# Altium footprint library Inductance.PcbLib: 23 footprints (part 1 of 2)
Each footprint in its own frame and in the unit in brackets; x right, y up, seen from the top. Pads: shape width x height; smd on the part's side, far side on the other; paste and mask are expansions set on the pad; w line width, h text height; cw(c..) or ccw(c..) is an arc to the next point about the centre after c.
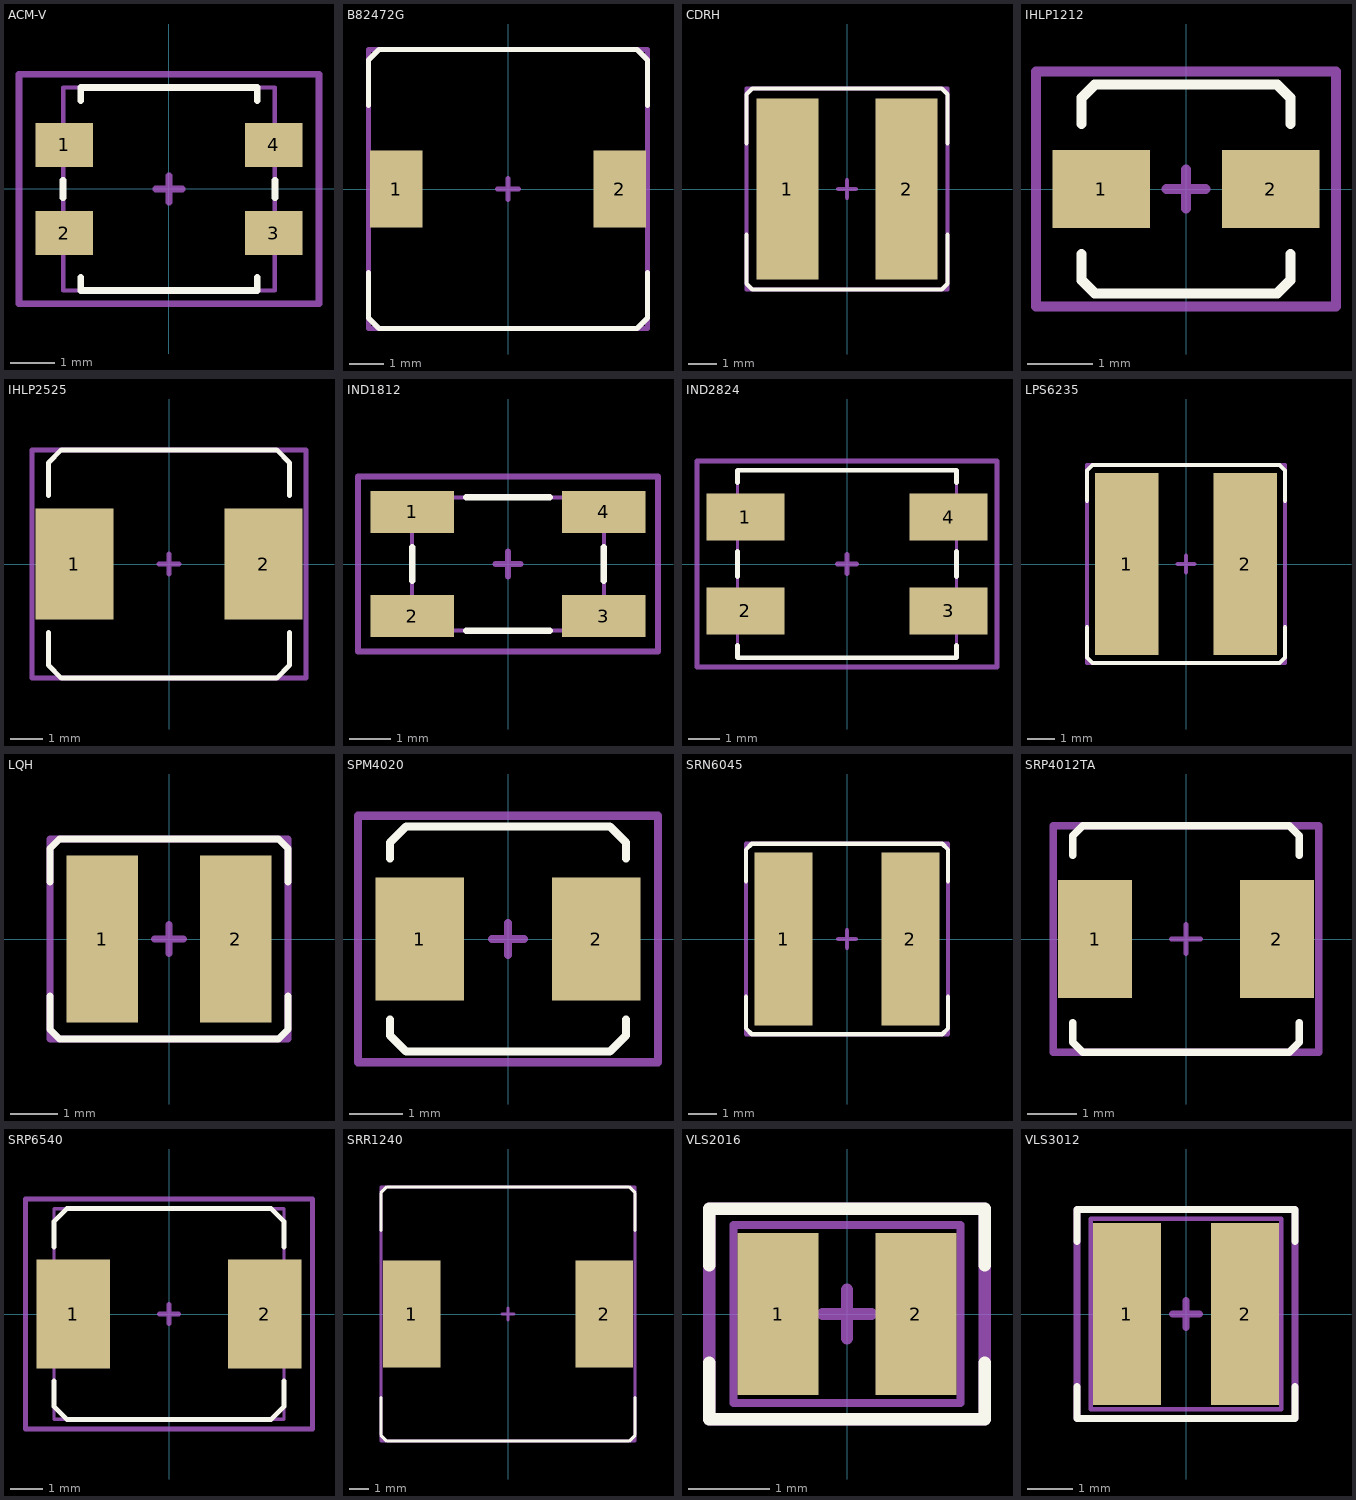
[diagram p0: the footprints below, top view; thin cyan lines are the x and y axes]

## ACM-V [mm]
pads (4):
  rect 1.3x1 smd: 1(-2.375,1) 2(-2.375,-1) 3(2.375,-1) 4(2.375,1)
Top Overlay:
  lines w0.153: -2.4,-0.2 -2.4,0.2 ; -2,-2 -2,-2.3 2,-2.3 2,-2 ; -2,2 -2,2.3 2,2.3 2,2 ; 2.4,-0.2 2.4,0.2
Top Assembly:
  lines w0.1: -2.4,-2.3 -2.4,2.3 2.4,2.3 2.4,-2.3 -2.4,-2.3
  text "'.Designator'" at -4.685,-0.755 h0.8
Top Courtyard:
  lines w0.153: -0.3,0 0.3,0 ; 0,-0.3 0,0.3 ; -3.4,-2.6 -3.4,2.6 3.4,2.6 3.4,-2.6 -3.4,-2.6
3D body "acm4520v (1).step": height 1.89, standoff 0, extent -2.35,-2.25 2.35,2.25

## B82472G [mm]
pads (2):
  rect 1.5x2.2 smd: 1(-3.2,0) 2(3.2,0)
Top Overlay:
  lines w0.153: -4,-2.4 -4,-3.7 -3.7,-4 3.7,-4 4,-3.7 4,-2.4 ; -4,2.4 -4,3.7 -3.7,4 3.7,4 4,3.7 4,2.4
Top Assembly:
  lines w0.1: -4,-4 -4,4 4,4 4,-4 -4,-4
  text "'.Designator'" at -4.685,-0.755 h0.8
Top Courtyard:
  lines w0.153: -0.3,0 0.3,0 ; 0,-0.3 0,0.3 ; -4,-4 -4,4 4,4 4,-4 -4,-4
3D body "b82472_g6.STEP": height 4.05, standoff 0, extent -3.65,-3.65 3.65,3.65

## CDRH [mm]
pads (2):
  rect 2.15x6.3 smd: 1(-2.075,0) 2(2.075,0)
Top Overlay:
  lines w0.153: -3.5,-1.6 -3.5,-3.3 -3.3,-3.5 3.3,-3.5 3.5,-3.3 3.5,-1.6 ; -3.5,1.6 -3.5,3.3 -3.3,3.5 3.3,3.5 3.5,3.3 3.5,1.6
Top Assembly:
  lines w0.1: -3.5,-3.5 -3.5,3.5 3.5,3.5 3.5,-3.5 -3.5,-3.5
  text "'.Designator'" at -4.685,-0.755 h0.8
Top Courtyard:
  lines w0.153: -0.3,0 0.3,0 ; 0,-0.3 0,0.3 ; -3.5,-3.5 -3.5,3.5 3.5,3.5 3.5,-3.5 -3.5,-3.5
3D body "User Library-CDRH5D28-1.STEP": height 2, standoff 0, extent -3,-3 3.005,3

## IHLP1212 [mm]
pads (2):
  rect 1.5x1.2 smd: 1(-1.3,0) 2(1.3,0)
Top Overlay:
  lines w0.153: -1.6,-1 -1.6,-1.4 -1.4,-1.6 1.4,-1.6 1.6,-1.4 1.6,-1 ; -1.6,1 -1.6,1.4 -1.4,1.6 1.4,1.6 1.6,1.4 1.6,1
Top Assembly:
  lines w0.1: -2.3,-1.8 -2.3,1.8 2.3,1.8 2.3,-1.8 -2.3,-1.8
  text "'.Designator'" at -4.532,-0.333 h0.8
Top Courtyard:
  lines w0.153: -0.3,0 0.3,0 ; 0,-0.3 0,0.3 ; -2.3,-1.8 2.3,-1.8 2.3,1.8 -2.3,1.8 -2.3,-1.8
3D body "IND_A220M11_VIS.step": height 2.01, standoff 0, extent -1.6,-1.6 1.6,1.6

## IHLP2525 [mm]
pads (2):
  rect 2.4x3.4 smd: 1(-2.9,0) 2(2.9,0)
Top Overlay:
  lines w0.153: -3.7,-2.1 -3.7,-3.1 -3.3,-3.5 3.3,-3.5 3.7,-3.1 3.7,-2.1 ; -3.7,2.1 -3.7,3.1 -3.3,3.5 3.3,3.5 3.7,3.1 3.7,2.1
Top Assembly:
  lines w0.1: -4.2,-3.5 4.2,-3.5 4.2,3.5 -4.2,3.5 -4.2,-3.5
  text "'.Designator'" at -4.685,-0.755 h0.8
Top Courtyard:
  lines w0.153: -0.3,0 0.3,0 ; 0,-0.3 0,0.3 ; -4.2,-3.5 -4.2,3.5 4.2,3.5 4.2,-3.5 -4.2,-3.5
3D body "IHLP2525CZ.step": height 2.89, standoff 0, extent -3.532,-3.331 3.545,3.339

## IND1812 [mm]
pads (4):
  rect 2x1 smd: 1(-2.3,1.25) 2(-2.3,-1.25) 3(2.3,-1.25) 4(2.3,1.25)
Top Overlay:
  lines w0.153: -2.3,-0.4 -2.3,0.4 ; -1,-1.6 1,-1.6 ; -1,1.6 1,1.6 ; 2.3,-0.4 2.3,0.4
Top Assembly:
  lines w0.1: -2.3,-1.6 -2.3,1.6 2.3,1.6 2.3,-1.6 -2.3,-1.6
  text "'.Designator'" at -4.685,-0.755 h0.8
Top Courtyard:
  lines w0.153: -0.3,0 0.3,0 ; 0,-0.3 0,0.3 ; -3.6,-2.1 3.6,-2.1 3.6,2.1 -3.6,2.1 -3.6,-2.1
3D body "act45b.step": height 2.8, standoff 0, extent -2.25,-1.6 2.25,1.6

## IND2824 [mm]
pads (4):
  rect 2.5x1.5 smd: 1(-3.25,1.5) 2(-3.25,-1.5) 3(3.25,-1.5) 4(3.25,1.5)
Top Overlay:
  lines w0.153: -3.5,-2.6 -3.5,-3 3.5,-3 3.5,-2.6 ; -3.5,-0.4 -3.5,0.4 ; -3.5,2.6 -3.5,3 3.5,3 3.5,2.6 ; 3.5,-0.4 3.5,0.4
Top Assembly:
  lines w0.1: -3.5,-3 3.5,-3 3.5,3 -3.5,3 -3.5,-3
  text "'.Designator'" at -4.685,-0.755 h0.8
Top Courtyard:
  lines w0.153: -0.3,0 0.3,0 ; 0,-0.3 0,0.3 ; -4.8,-3.3 4.8,-3.3 4.8,3.3 -4.8,3.3 -4.8,-3.3
3D body "acm7060.step": height 3.35, standoff 0.01, extent -3.499,-2.999 3.501,3.001

## LPS6235 [mm]
pads (2):
  rect 2.3x6.6 smd: 1(-2.15,0) 2(2.15,0)
Top Overlay:
  lines w0.153: -3.6,-2.3 -3.6,-3.4 -3.4,-3.6 3.4,-3.6 3.6,-3.4 3.6,-2.3 ; -3.6,2.3 -3.6,3.4 -3.4,3.6 3.4,3.6 3.6,3.4 3.6,2.3
Top Assembly:
  lines w0.1: -3.6,-3.6 -3.6,3.6 3.6,3.6 3.6,-3.6 -3.6,-3.6
  text "'.Designator'" at -4.685,-0.755 h0.8
Top Courtyard:
  lines w0.153: -0.3,0 0.3,0 ; 0,-0.3 0,0.3 ; -3.6,-3.6 3.6,-3.6 3.6,3.6 -3.6,3.6 -3.6,-3.6
3D body "Coilcraft-LPS6235.step": height 3.5, standoff 0, extent -3.038,-3.038 3.038,3.038

## LQH [mm]
pads (2):
  rect 1.5x3.5 smd: 1(-1.4,0) 2(1.4,0)
Top Overlay:
  lines w0.153: -2.5,-1.2 -2.5,-1.9 -2.3,-2.1 2.3,-2.1 2.5,-1.9 2.5,-1.2 ; -2.5,1.2 -2.5,1.9 -2.3,2.1 2.3,2.1 2.5,1.9 2.5,1.2
Top Assembly:
  lines w0.1: -2.5,-2.1 2.5,-2.1 2.5,2.1 -2.5,2.1 -2.5,-2.1
  text "'.Designator'" at -4.685,-0.755 h0.8
Top Courtyard:
  lines w0.153: -0.3,0 0.3,0 ; 0,-0.3 0,0.3 ; -2.5,-2.1 -2.5,2.1 2.5,2.1 2.5,-2.1 -2.5,-2.1
3D body "LQH32PN_sw.STEP": height 1.55, standoff 0, extent -1.6,-1.25 1.6,1.25

## SPM4020 [mm]
pads (2):
  rect 1.65x2.3 smd: 1(-1.65,0) 2(1.65,0)
Top Overlay:
  lines w0.153: -2.2,-1.5 -2.2,-1.8 -1.9,-2.1 1.9,-2.1 2.2,-1.8 2.2,-1.5 ; -2.2,1.5 -2.2,1.8 -1.9,2.1 1.9,2.1 2.2,1.8 2.2,1.5
Top Assembly:
  lines w0.1: -2.8,-2.3 -2.8,2.3 2.8,2.3 2.8,-2.3 -2.8,-2.3
  text "'.Designator'" at -4.532,-0.333 h0.8
Top Courtyard:
  lines w0.153: -0.3,0 0.3,0 ; 0,-0.3 0,0.3 ; -2.8,-2.3 -2.8,2.3 2.8,2.3 2.8,-2.3 -2.8,-2.3
3D body "spm4020-lr.step": height 2, standoff 0, extent -2.196,-2.019 2.202,2.081

## SRN6045 [mm]
pads (2):
  rect 2x6 smd: 1(-2.2,0) 2(2.2,0)
Top Overlay:
  lines w0.153: -3.5,-2 -3.5,-3.1 -3.3,-3.3 3.3,-3.3 3.5,-3.1 3.5,-2 ; -3.5,2 -3.5,3.1 -3.3,3.3 3.3,3.3 3.5,3.1 3.5,2
Top Assembly:
  lines w0.1: -3.5,-3.3 -3.5,3.3 3.5,3.3 3.5,-3.3 -3.5,-3.3
  text "'.Designator'" at -4.532,-0.333 h0.8
Top Courtyard:
  lines w0.153: -0.3,0 0.3,0 ; 0,-0.3 0,0.3 ; -3.5,-3.3 -3.5,3.3 3.5,3.3 3.5,-3.3 -3.5,-3.3
3D body "srn6045-1r0y.STEP": height 4.5, standoff 0, extent -3,-3 3,3

## SRP4012TA [mm]
pads (2):
  rect 1.5x2.4 smd: 1(-1.85,0) 2(1.85,0)
Top Overlay:
  lines w0.153: -2.3,-1.7 -2.3,-2.1 -2.1,-2.3 2.1,-2.3 2.3,-2.1 2.3,-1.7 ; -2.3,1.7 -2.3,2.1 -2.1,2.3 2.1,2.3 2.3,2.1 2.3,1.7
Top Assembly:
  lines w0.1: -2.7,-2.3 -2.7,2.3 2.7,2.3 2.7,-2.3 -2.7,-2.3
  text "'.Designator'" at -4.532,-0.333 h0.8
Top Courtyard:
  lines w0.1: -0.3,0 0.3,0 ; 0,-0.3 0,0.3
  lines w0.153: -2.7,-2.3 -2.7,2.3 2.7,2.3 2.7,-2.3 -2.7,-2.3
3D body "srp4012ta-1r0m.STEP": height 1.73, standoff 0.03, extent -2.197,-2.148 2.197,2.145

## SRP6540 [mm]
pads (2):
  rect 2.3x3.4 smd: 1(-3,0) 2(3,0)
Top Overlay:
  lines w0.153: -3.6,-2.1 -3.6,-2.9 -3.2,-3.3 3.2,-3.3 3.6,-2.9 3.6,-2.1 ; -3.6,2.1 -3.6,2.9 -3.2,3.3 3.2,3.3 3.6,2.9 3.6,2.1
Top Assembly:
  lines w0.1: -3.6,-3.3 3.6,-3.3 3.6,3.3 -3.6,3.3 -3.6,-3.3
  text "'.Designator'" at -4.685,-0.755 h0.8
Top Courtyard:
  lines w0.153: -0.3,0 0.3,0 ; 0,-0.3 0,0.3 ; -4.5,-3.6 -4.5,3.6 4.5,3.6 4.5,-3.6 -4.5,-3.6
3D body "srp6540-220m.stp.STEP": height 3.99, standoff 0, extent -3.594,-3.251 3.594,3.251

## SRR1240 [mm]
pads (2):
  rect 2.9x5.4 smd: 1(-4.85,0) 2(4.85,0)
Top Overlay:
  lines w0.153: -6.4,-4.2 -6.4,-6.1 -6.1,-6.4 6.1,-6.4 6.4,-6.1 6.4,-4.2 ; -6.4,4.2 -6.4,6.1 -6.1,6.4 6.1,6.4 6.4,6.1 6.4,4.2
Top Assembly:
  lines w0.1: -6.4,-6.4 -6.4,6.4 6.4,6.4 6.4,-6.4 -6.4,-6.4
  text "'.Designator'" at -4.532,-0.333 h0.8
Top Courtyard:
  lines w0.153: -0.3,0 0.3,0 ; 0,-0.3 0,0.3 ; -6.4,-6.4 -6.4,6.4 6.4,6.4 6.4,-6.4 -6.4,-6.4
3D body "srr1240-100m.stp.STEP": height 4, standoff 0, extent -6.25,-6.25 6.25,6.25

## VLS2016 [mm]
pads (2):
  rect 1x2 smd: 1(-0.85,0) 2(0.85,0)
Top Overlay:
  lines w0.153: -1.7,-0.6 -1.7,-1.3 1.7,-1.3 1.7,-0.6 ; -1.7,0.6 -1.7,1.3 1.7,1.3 1.7,0.6
Top Assembly:
  lines w0.1: -1.4,-1.1 1.4,-1.1 1.4,1.1 -1.4,1.1 -1.4,-1.1
  text "'.Designator'" at -4.532,-0.333 h0.8
Top Courtyard:
  lines w0.153: -0.3,0 0.3,0 ; 0,-0.3 0,0.3 ; -1.7,-1.3 1.7,-1.3 1.7,1.3 -1.7,1.3 -1.7,-1.3
3D body "vls201610cx-1.step": height 0.99, standoff -0.01, extent -1,-0.8 1,0.8

## VLS3012 [mm]
pads (2):
  rect 1.5x4 smd: 1(-1.3,0) 2(1.3,0)
Top Overlay:
  lines w0.153: -2.4,-1.6 -2.4,-2.3 2.4,-2.3 2.4,-1.6 ; -2.4,1.6 -2.4,2.3 2.4,2.3 2.4,1.6
Top Assembly:
  lines w0.1: -2.1,-2.1 -2.1,2.1 2.1,2.1 2.1,-2.1 -2.1,-2.1
  text "'.Designator'" at -4.532,-0.333 h0.8
Top Courtyard:
  lines w0.153: -0.3,0 0.3,0 ; 0,-0.3 0,0.3 ; -2.4,-2.3 -2.4,2.3 2.4,2.3 2.4,-2.3 -2.4,-2.3
3D body "vls3012hbx.step": height 1.19, standoff -0.01, extent -1.502,-1.509 1.502,1.509